# Altium schematic symbol library Sensor.SchLib: 6 symbols
Pins are listed as number, name and electrical type; pins without a type are passive.

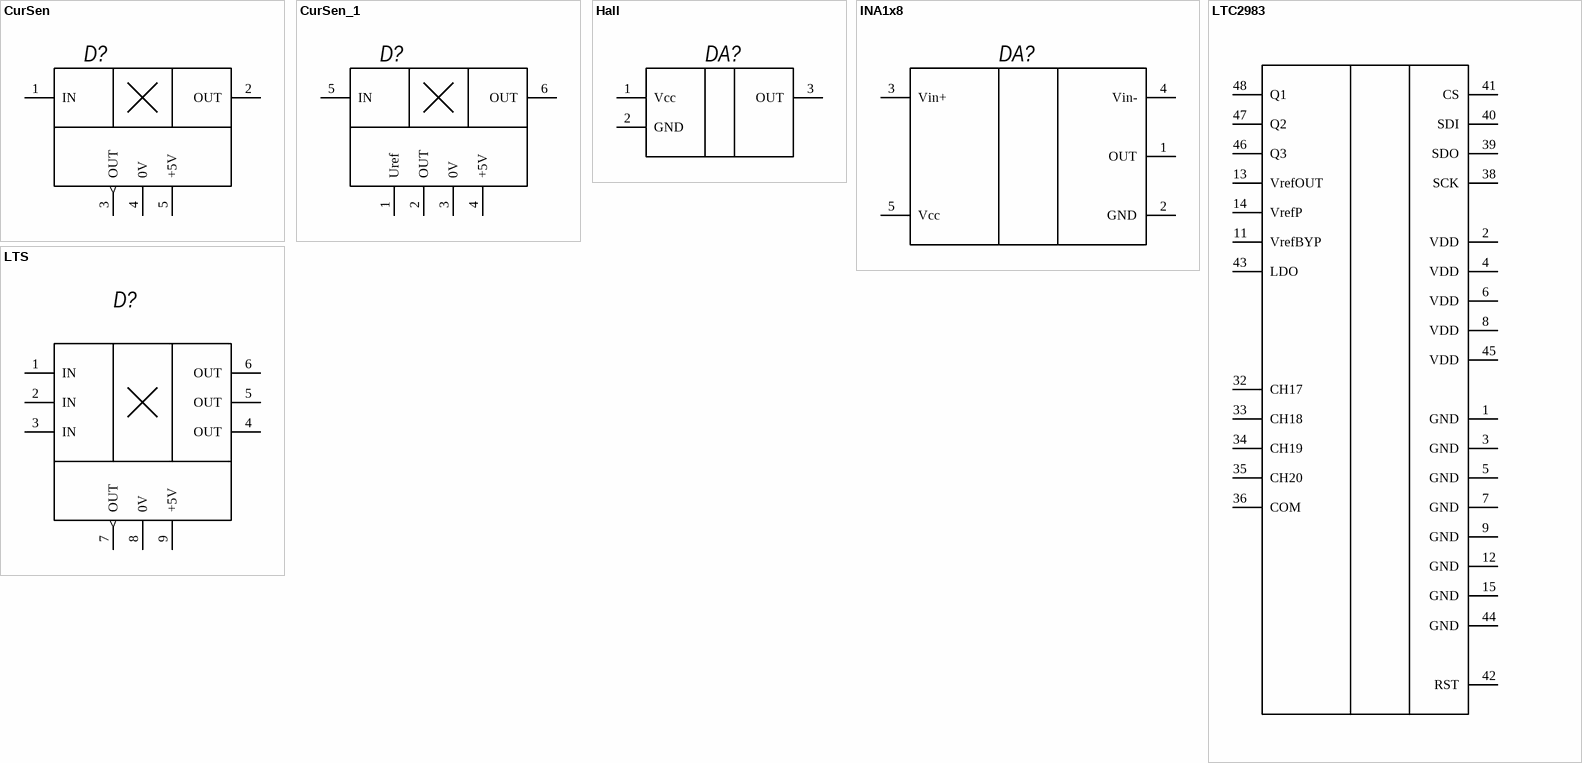
[diagram p0: symbols CurSen to LTS]

## CurSen
designator D?
Current sensors
pins: 1 IN, 2 OUT, 3 OUT (out), 4 0V, 5 +5V

## CurSen_1
designator D?  (graphical)
Current sensors
pins: 1 Uref, 2 OUT, 3 0V, 4 +5V, 5 IN, 6 OUT

## Hall
designator DA?
pins: 1 Vcc (power), 2 GND (power), 3 OUT (power)

## INA1x8
designator DA?
pins: 1 OUT (power), 2 GND (power), 3 Vin+ (power), 4 Vin- (power), 5 Vcc (power)

## LTC2983
designator R?
Part: R 0805 ±1%; Cat: Резистор; Name: NULL; Power: 0,125 Вт; Tolerance: ±1%; Bill: Резистор NULL-0,125 Вт-NULL±1%; Com: R0805 0,125 Вт NULL ±1%; Package: R0805; Nominal: NULL
pins: 1 GND, 2 VDD, 3 GND, 4 VDD, 5 GND, 6 VDD, 7 GND, 8 VDD, 9 GND, 11 VrefBYP, 12 GND, 13 VrefOUT, 14 VrefP, 15 GND, 32 CH17, 33 CH18, 34 CH19, 35 CH20, 36 COM, 38 SCK, 39 SDO, 40 SDI, 41 CS, 42 RST, 43 LDO, 44 GND, 45 VDD, 46 Q3, 47 Q2, 48 Q1

## LTS
designator D?
Current sensors
pins: 1 IN, 2 IN, 3 IN, 4 OUT, 5 OUT, 6 OUT, 7 OUT (out), 8 0V, 9 +5V